# Altium schematic symbol library IR3889.SchLib: 1 symbol
Pins are listed as number, name and electrical type; pins without a type are passive.

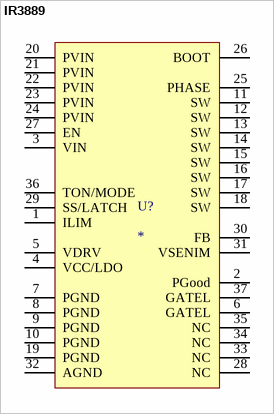
[diagram p0: symbol IR3889]

## IR3889
designator U?
pins: 1 ILIM, 2 PGood, 3 VIN, 4 VCC/LDO, 5 VDRV, 6 GATEL, 7 PGND, 8 PGND, 9 PGND, 10 PGND, 11 SW, 12 SW, 13 SW, 14 SW, 15 SW, 16 SW, 17 SW, 18 SW, 19 PGND, 20 PVIN, 21 PVIN, 22 PVIN, 23 PVIN, 24 PVIN, 25 PHASE, 26 BOOT, 27 EN, 28 NC, 29 SS/LATCH, 30 FB, 31 VSENIM, 32 AGND, 33 NC, 34 NC, 35 NC, 36 TON/MODE, 37 GATEL